# EAGLE library part PULSE_PE65861 (library cvogel)
Pulse PE-65861 Dual T1/CEPT/ISDN-PRI Transformer 1st Transformer: Pin 16/15/14 : 1/2/3, 1CT:2CT 2nd Transformer: Pin 6/7/8 : 11/10/9, 1CT:2CT
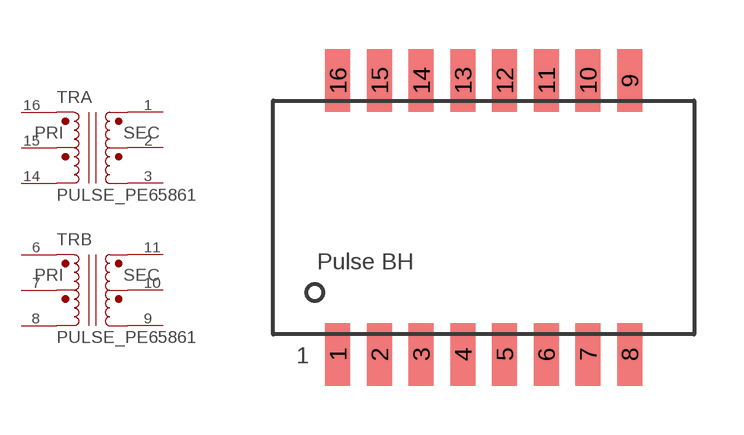
[diagram p9: symbol with the pads of PULSE_BH_XFORMER; footprint PULSE_BH_XFORMER]

Designator prefix TR; gates A=XFORMER_PRI_CTR_SEC_CTR B=XFORMER_PRI_CTR_SEC_CTR

## PULSE_PE65861  [PULSE_BH_XFORMER]
1  A:SEC_1
2  A:SEC_2
3  A:SEC_3
6  B:PRI_1
7  B:PRI_2
8  B:PRI_3
9  B:SEC_3
10  B:SEC_2
11  B:SEC_1
14  A:PRI_3
15  A:PRI_2
16  A:PRI_1

## Footprint PULSE_BH_XFORMER (pad centres in mm)
smd 0.762 x 1.905: 1 -4.445,-4.166; 2 -3.175,-4.166; 3 -1.905,-4.166; 4 -0.635,-4.166; 5 0.635,-4.166; 6 1.905,-4.166; 7 3.175,-4.166; 8 4.445,-4.166; 9 4.445,4.166; 10 3.175,4.166; 11 1.905,4.166; 12 0.635,4.166; 13 -0.635,4.166; 14 -1.905,4.166; 15 -3.175,4.166; 16 -4.445,4.166